# Altium schematic symbol library Inductor.SchLib: 1 symbol
Pins are listed as number, name and electrical type; pins without a type are passive.

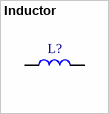
[diagram p0: symbol Inductor]

## Inductor
designator L?
MP: AIML-1206-R18K-T; MF: Abracon; Package: 3216 Abracon; Availability: In Stock; Price: None; Check_prices: https://www.snapeda.com/parts/AIML-1206-R18K-T/Abracon/view-part/4258520/?ref=eda; Value: *; SnapEDA_Link: https://www.snapeda.com/parts/AIML-1206-R18K-T/Abracon/view-part/4258520/?ref=snap
footprint INDC3216X140N
pins: 1, 2